# EAGLE library part TMC2209-LA (library TMC2209-LA)
Silent stepper motor driver 5 to 36V, up to 1.4A with S/D and UART Interface, 256 Steps, SpreadCycle and Stealthchop2 Source: Datasheet <https://www.analog.com/media/en/technical-documentation/data-sheets/TMC2209_datasheet_rev1.09.pdf>
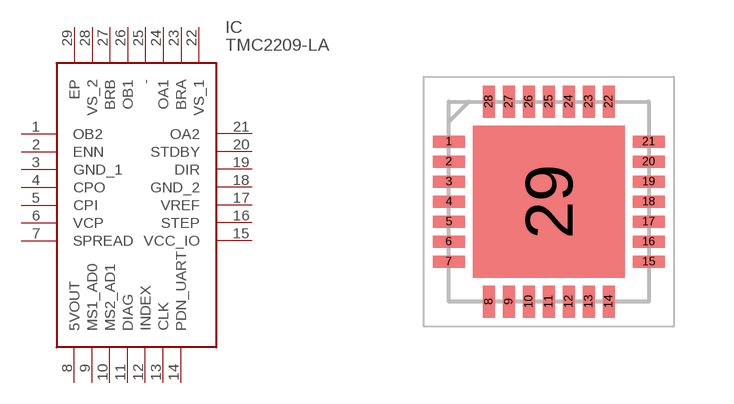
[diagram p0: symbol with the pads of QFN50P500X500X90-29N; footprint QFN50P500X500X90-29N]

Designator prefix IC

## TMC2209-LA (Arrow_Part_Number: TMC2209-LA; Arrow_Price-Stock: null?region=asia; Description: Silent stepper motor driver 5 to 36V, up to 1.4A with S/D and UART Interface, 256 Steps, SpreadCycle and Stealthchop2; Height: 0.9mm; Manufacturer_Name: Analog Devices; Manufacturer_Part_Number: TMC2209-LA; Mouser_Part_Number: 700-TMC2209-LA; Mouser_Price-Stock: https://www.mouser.co.uk/ProductDetail/ADI-Trinamic/TMC2209-LA?qs=TiOZkKH1s2QqRRreEQH08w%3D%3D)  [QFN50P500X500X90-29N]
1  OB2
2  ENN
3  GND_1
4  CPO
5  CPI
6  VCP
7  SPREAD
8  5VOUT
9  MS1_AD0
10  MS2_AD1
11  DIAG
12  INDEX
13  CLK
14  PDN_UART
15  VCC_IO
16  STEP
17  VREF
18  GND_2
19  DIR
20  STDBY
21  OA2
22  VS_1
23  BRA
24  OA1
25  -
26  OB1
27  BRB
28  VS_2
29  EP

## Footprint QFN50P500X500X90-29N (pad centres in mm)
TMC2209-LA
smd 0.8 x 0.3: 1 -2.5,1.5; 2 -2.5,1; 3 -2.5,0.5; 4 -2.5,0; 5 -2.5,-0.5; 6 -2.5,-1; 7 -2.5,-1.5; 15 2.5,-1.5; 16 2.5,-1; 17 2.5,-0.5; 18 2.5,0; 19 2.5,0.5; 20 2.5,1; 21 2.5,1.5
smd 0.3 x 0.8: 8 -1.5,-2.5; 9 -1,-2.5; 10 -0.5,-2.5; 11 0,-2.5; 12 0.5,-2.5; 13 1,-2.5; 14 1.5,-2.5; 22 1.5,2.5; 23 1,2.5; 24 0.5,2.5; 25 0,2.5; 26 -0.5,2.5; 27 -1,2.5; 28 -1.5,2.5
smd 3.8 x 3.8: 29 0,0